# Altium footprint library SMA-COMPACT.PcbLib: 1 footprints
Each footprint in its own frame and in the unit in brackets; x right, y up, seen from the top. Pads: shape width x height; smd on the part's side, far side on the other; paste and mask are expansions set on the pad; w line width, h text height; cw(c..) or ccw(c..) is an arc to the next point about the centre after c.
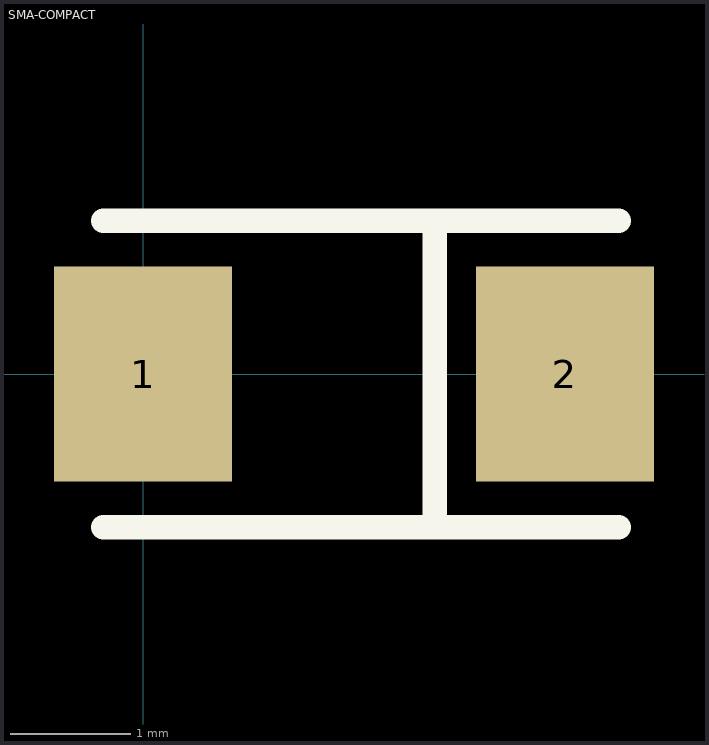
[diagram p0: the footprint, top view; thin cyan lines are the x and y axes]

## SMA-COMPACT [mil]
pads (2):
  rect 58x70 smd: 1(0,0) 2(137.48,0)
Top Overlay:
  lines w8: -13,-50 155,-50 ; -13,50 155,50 ; 95,-50 95,50
3D body: height 106.3, standoff 0, extent -41.23,-58.07 179.24,58.07